# Altium footprint library Connector_PinSocket_2.54mm.PcbLib: 278 footprints (part 13 of 18)
Each footprint in its own frame and in the unit in brackets; x right, y up, seen from the top. Pads: shape width x height; smd on the part's side, far side on the other; paste and mask are expansions set on the pad; w line width, h text height; cw(c..) or ccw(c..) is an arc to the next point about the centre after c.
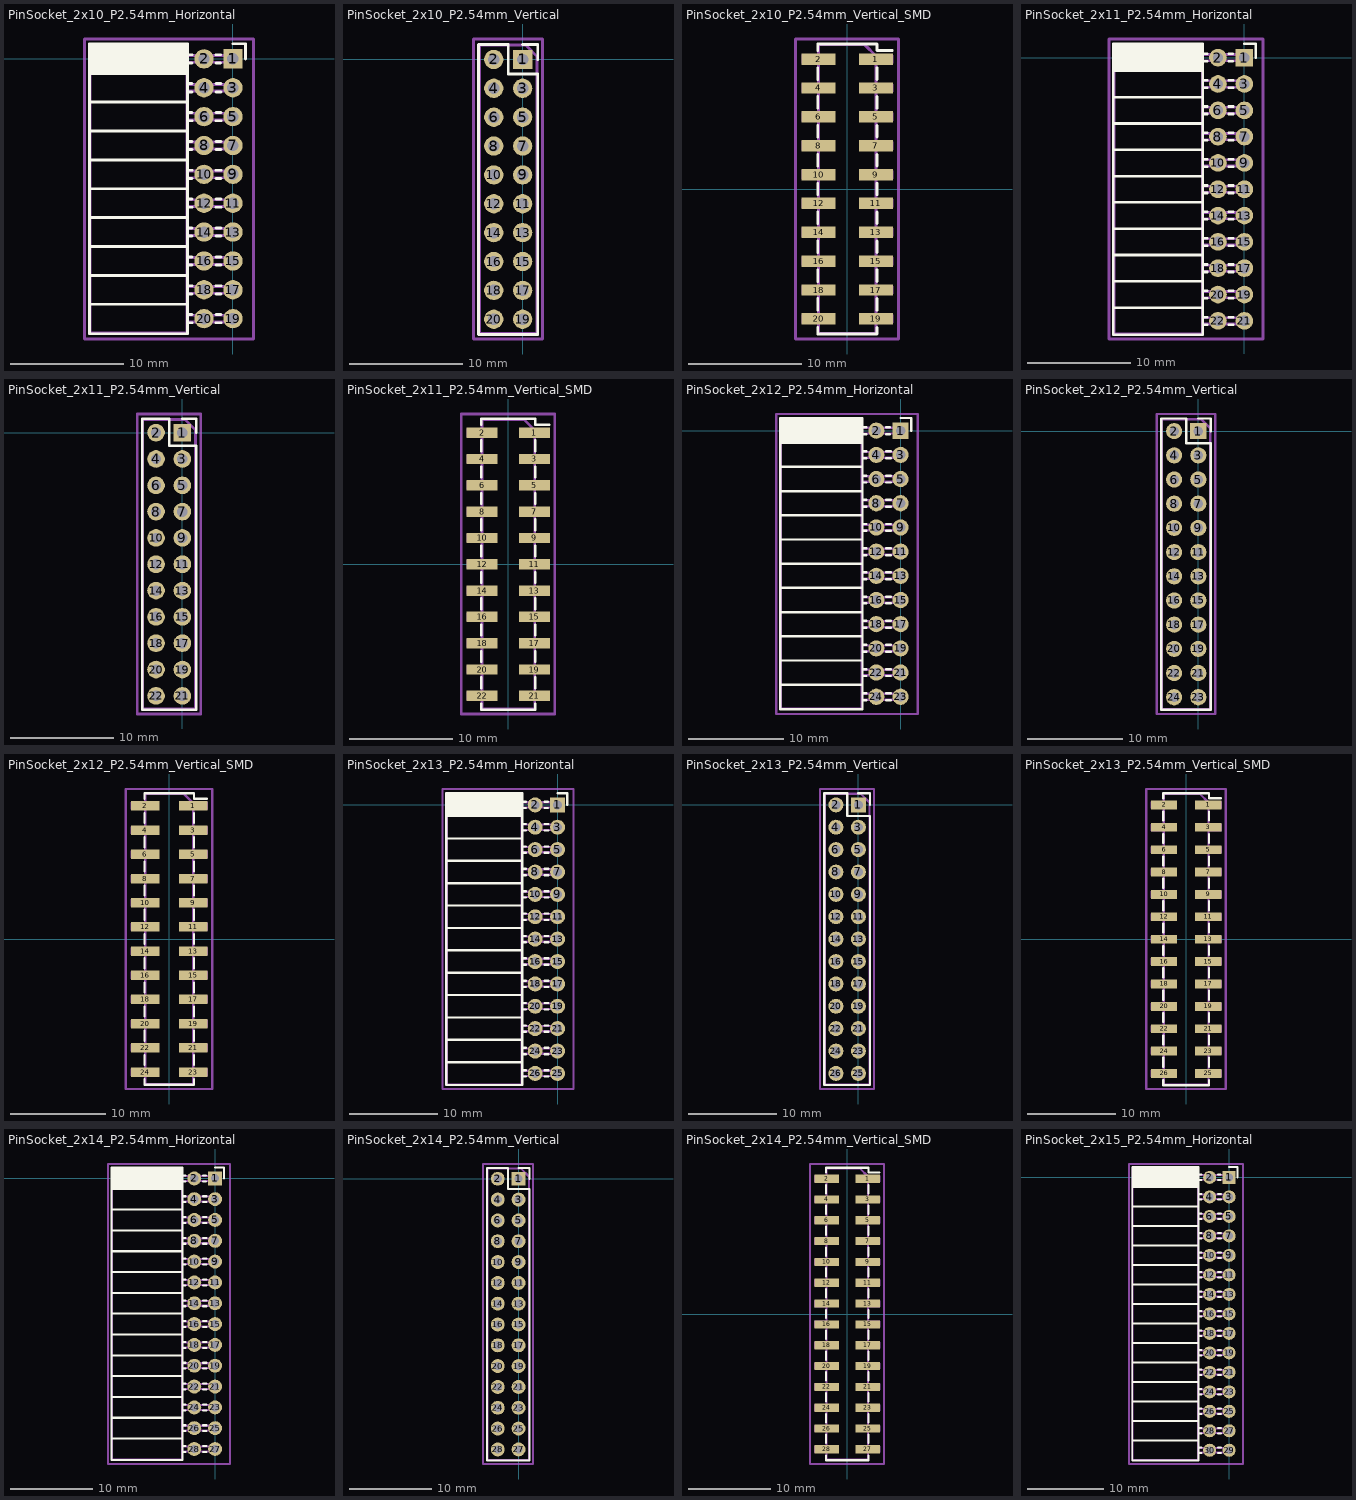
[diagram p12: the footprints below, top view; thin cyan lines are the x and y axes]

## PinSocket_2x10_P2.54mm_Horizontal [mm]
pads (20):
  rect 1.7x1.7 hole 1: 1(0,0)
  round 1.7 hole 1: 2(-2.54,0) 3(0,-2.54) 4(-2.54,-2.54) 5(0,-5.08) 6(-2.54,-5.08) 7(0,-7.62) 8(-2.54,-7.62) 9(0,-10.16) 10(-2.54,-10.16) 11(0,-12.7) 12(-2.54,-12.7) 13(0,-15.24) 14(-2.54,-15.24) 15(0,-17.78) 16(-2.54,-17.78) 17(0,-20.32) 18(-2.54,-20.32) 19(0,-22.86) 20(-2.54,-22.86)
F.SilkS:
  lines w0.254: -12.63,-21.59 -4,-21.59 ; -12.63,-19.05 -4,-19.05 ; -12.63,-16.51 -4,-16.51 ; -12.63,-13.97 -4,-13.97 ; -12.63,-11.43 -4,-11.43 ; -12.63,-8.89 -4,-8.89 ; -12.63,-6.35 -4,-6.35 ; -12.63,-3.81 -4,-3.81 ; -12.63,-1.27 -4,-1.27 ; -12.63,-1.152 -4,-1.152 ; -12.63,-1.034 -4,-1.034 ; -12.63,-0.916 -4,-0.916 ; -12.63,-0.798 -4,-0.798 ; -12.63,-0.68 -4,-0.68 ; -12.63,-0.561 -4,-0.561 ; -12.63,-0.443 -4,-0.443 ; -12.63,-0.325 -4,-0.325 ; -12.63,-0.207 -4,-0.207 ; -12.63,-0.089 -4,-0.089 ; -12.63,0.029 -4,0.029 ; -12.63,0.147 -4,0.147 ; -12.63,0.265 -4,0.265 ; -12.63,0.383 -4,0.383 ; -12.63,0.501 -4,0.501 ; -12.63,0.62 -4,0.62 ; -12.63,0.738 -4,0.738 ; -12.63,0.856 -4,0.856 ; -12.63,0.974 -4,0.974 ; -12.63,1.092 -4,1.092 ; -12.63,1.21 -4,1.21 ; -4,-23.22 -3.59,-23.22 ; -4,-22.5 -3.59,-22.5 ; -4,-20.68 -3.59,-20.68 ; -4,-19.96 -3.59,-19.96 ; -4,-18.14 -3.59,-18.14 ; -4,-17.42 -3.59,-17.42 ; -4,-15.6 -3.59,-15.6 ; -4,-14.88 -3.59,-14.88 ; -4,-13.06 -3.59,-13.06 ; -4,-12.34 -3.59,-12.34 ; -4,-10.52 -3.59,-10.52 ; -4,-9.8 -3.59,-9.8 ; -4,-7.98 -3.59,-7.98 ; -4,-7.26 -3.59,-7.26 ; -4,-5.44 -3.59,-5.44 ; -4,-4.72 -3.59,-4.72 ; -4,-2.9 -3.59,-2.9 ; -4,-2.18 -3.59,-2.18 ; -4,-0.36 -3.59,-0.36 ; -4,0.36 -3.59,0.36 ; -1.49,-23.22 -1.05,-23.22 ; -1.49,-22.5 -1.05,-22.5 ; -1.49,-20.68 -1.05,-20.68 ; -1.49,-19.96 -1.05,-19.96 ; -1.49,-18.14 -1.05,-18.14 ; -1.49,-17.42 -1.05,-17.42 ; -1.49,-15.6 -1.05,-15.6 ; -1.49,-14.88 -1.05,-14.88 ; -1.49,-13.06 -1.05,-13.06 ; -1.49,-12.34 -1.05,-12.34 ; -1.49,-10.52 -1.05,-10.52 ; -1.49,-9.8 -1.05,-9.8 ; -1.49,-7.98 -1.05,-7.98 ; -1.49,-7.26 -1.05,-7.26 ; -1.49,-5.44 -1.05,-5.44 ; -1.49,-4.72 -1.05,-4.72 ; -1.49,-2.9 -1.05,-2.9 ; -1.49,-2.18 -1.05,-2.18 ; -1.49,-0.36 -1.11,-0.36 ; -1.49,0.36 -1.11,0.36 ; 0,1.33 1.11,1.33 1.11,0 ; -12.63,-24.19 -4,-24.19 -4,1.33 -12.63,1.33 -12.63,-24.19
Top Assembly:
  lines w0.254: -4.06,-23.16 0,-23.16 0,-22.56 -4.06,-22.56 ; -4.06,-20.62 0,-20.62 0,-20.02 -4.06,-20.02 ; -4.06,-18.08 0,-18.08 0,-17.48 -4.06,-17.48 ; -4.06,-15.54 0,-15.54 0,-14.94 -4.06,-14.94 ; -4.06,-13 0,-13 0,-12.4 -4.06,-12.4 ; -4.06,-10.46 0,-10.46 0,-9.86 -4.06,-9.86 ; -4.06,-7.92 0,-7.92 0,-7.32 -4.06,-7.32 ; -4.06,-5.38 0,-5.38 0,-4.78 -4.06,-4.78 ; -4.06,-2.84 0,-2.84 0,-2.24 -4.06,-2.24 ; -4.06,-0.3 0,-0.3 0,0.3 -4.06,0.3 ; -4.06,0.3 -4.06,-24.13 -12.57,-24.13 -12.57,1.27 -5.03,1.27 -4.06,0.3
  text "'.Designator'" at -7.475,-15.477 h1
Top Courtyard:
  lines w0.254: -13.05,-24.65 1.8,-24.65 1.8,1.75 -13.05,1.75 -13.05,-24.65
Top Designator:
  text ".Designator" at -13.243,-11.958 h1.52

## PinSocket_2x10_P2.54mm_Vertical [mm]
pads (20):
  rect 1.7x1.7 hole 1: 1(0,0)
  round 1.7 hole 1: 2(-2.54,0) 3(0,-2.54) 4(-2.54,-2.54) 5(0,-5.08) 6(-2.54,-5.08) 7(0,-7.62) 8(-2.54,-7.62) 9(0,-10.16) 10(-2.54,-10.16) 11(0,-12.7) 12(-2.54,-12.7) 13(0,-15.24) 14(-2.54,-15.24) 15(0,-17.78) 16(-2.54,-17.78) 17(0,-20.32) 18(-2.54,-20.32) 19(0,-22.86) 20(-2.54,-22.86)
F.SilkS:
  lines w0.254: 0,1.33 1.33,1.33 1.33,0 ; -3.87,-24.19 1.33,-24.19 1.33,-1.27 -1.27,-1.27 -1.27,1.33 -3.87,1.33 -3.87,-24.19
Top Assembly:
  lines w0.254: -3.81,-24.13 1.27,-24.13 1.27,0.27 0.27,1.27 -3.81,1.27 -3.81,-24.13
  text "'.Designator'" at -0.43,-15.477 h1
Top Courtyard:
  lines w0.254: -4.34,-24.6 1.76,-24.6 1.76,1.8 -4.34,1.8 -4.34,-24.6
Top Designator:
  text ".Designator" at -8.908,-11.908 h1.52

## PinSocket_2x10_P2.54mm_Vertical_SMD [mm]
pads (20):
  rect 3x1 smd: 1(2.52,11.43) 2(-2.52,11.43) 3(2.52,8.89) 4(-2.52,8.89) 5(2.52,6.35) 6(-2.52,6.35) 7(2.52,3.81) 8(-2.52,3.81) 9(2.52,1.27) 10(-2.52,1.27) 11(2.52,-1.27) 12(-2.52,-1.27) 13(2.52,-3.81) 14(-2.52,-3.81) 15(2.52,-6.35) 16(-2.52,-6.35) 17(2.52,-8.89) 18(-2.52,-8.89) 19(2.52,-11.43) 20(-2.52,-11.43)
F.SilkS:
  lines w0.254: -2.6,-12.19 -2.6,-12.76 2.6,-12.76 2.6,-12.19 ; -2.6,-10.67 -2.6,-9.65 ; -2.6,-8.13 -2.6,-7.11 ; -2.6,-5.59 -2.6,-4.57 ; -2.6,-3.05 -2.6,-2.03 ; -2.6,-0.51 -2.6,0.51 ; -2.6,2.03 -2.6,3.05 ; -2.6,4.57 -2.6,5.59 ; -2.6,7.11 -2.6,8.13 ; -2.6,9.65 -2.6,10.67 ; -2.6,12.19 -2.6,12.76 2.6,12.76 2.6,12.19 3.96,12.19 ; 2.6,-10.67 2.6,-9.65 ; 2.6,-8.13 2.6,-7.11 ; 2.6,-5.59 2.6,-4.57 ; 2.6,-3.05 2.6,-2.03 ; 2.6,-0.51 2.6,0.51 ; 2.6,2.03 2.6,3.05 ; 2.6,4.57 2.6,5.59 ; 2.6,7.11 2.6,8.13 ; 2.6,9.65 2.6,10.67
Top Assembly:
  lines w0.254: -2.54,-11.75 -3.92,-11.75 -3.92,-11.11 -2.54,-11.11 ; -2.54,-9.21 -3.92,-9.21 -3.92,-8.57 -2.54,-8.57 ; -2.54,-6.67 -3.92,-6.67 -3.92,-6.03 -2.54,-6.03 ; -2.54,-4.13 -3.92,-4.13 -3.92,-3.49 -2.54,-3.49 ; -2.54,-1.59 -3.92,-1.59 -3.92,-0.95 -2.54,-0.95 ; -2.54,0.95 -3.92,0.95 -3.92,1.59 -2.54,1.59 ; -2.54,3.49 -3.92,3.49 -3.92,4.13 -2.54,4.13 ; -2.54,6.03 -3.92,6.03 -3.92,6.67 -2.54,6.67 ; -2.54,8.57 -3.92,8.57 -3.92,9.21 -2.54,9.21 ; -2.54,11.11 -3.92,11.11 -3.92,11.75 -2.54,11.75 ; 2.54,-11.75 3.92,-11.75 3.92,-11.11 2.54,-11.11 ; 2.54,-9.21 3.92,-9.21 3.92,-8.57 2.54,-8.57 ; 2.54,-6.67 3.92,-6.67 3.92,-6.03 2.54,-6.03 ; 2.54,-4.13 3.92,-4.13 3.92,-3.49 2.54,-3.49 ; 2.54,-1.59 3.92,-1.59 3.92,-0.95 2.54,-0.95 ; 2.54,0.95 3.92,0.95 3.92,1.59 2.54,1.59 ; 2.54,3.49 3.92,3.49 3.92,4.13 2.54,4.13 ; 2.54,6.03 3.92,6.03 3.92,6.67 2.54,6.67 ; 2.54,8.57 3.92,8.57 3.92,9.21 2.54,9.21 ; 2.54,11.11 3.92,11.11 3.92,11.75 2.54,11.75 ; -2.54,-12.7 2.54,-12.7 2.54,11.7 1.54,12.7 -2.54,12.7 -2.54,-12.7
  text "'.Designator'" at 0.84,-4.047 h1
Top Courtyard:
  lines w0.254: -4.55,-13.2 4.5,-13.2 4.5,13.2 -4.55,13.2 -4.55,-13.2
Top Designator:
  text ".Designator" at -7.643,-0.508 h1.52

## PinSocket_2x11_P2.54mm_Horizontal [mm]
pads (22):
  rect 1.7x1.7 hole 1: 1(0,0)
  round 1.7 hole 1: 2(-2.54,0) 3(0,-2.54) 4(-2.54,-2.54) 5(0,-5.08) 6(-2.54,-5.08) 7(0,-7.62) 8(-2.54,-7.62) 9(0,-10.16) 10(-2.54,-10.16) 11(0,-12.7) 12(-2.54,-12.7) 13(0,-15.24) 14(-2.54,-15.24) 15(0,-17.78) 16(-2.54,-17.78) 17(0,-20.32) 18(-2.54,-20.32) 19(0,-22.86) 20(-2.54,-22.86) 21(0,-25.4) 22(-2.54,-25.4)
F.SilkS:
  lines w0.254: -12.63,-24.13 -4,-24.13 ; -12.63,-21.59 -4,-21.59 ; -12.63,-19.05 -4,-19.05 ; -12.63,-16.51 -4,-16.51 ; -12.63,-13.97 -4,-13.97 ; -12.63,-11.43 -4,-11.43 ; -12.63,-8.89 -4,-8.89 ; -12.63,-6.35 -4,-6.35 ; -12.63,-3.81 -4,-3.81 ; -12.63,-1.27 -4,-1.27 ; -12.63,-1.152 -4,-1.152 ; -12.63,-1.034 -4,-1.034 ; -12.63,-0.916 -4,-0.916 ; -12.63,-0.798 -4,-0.798 ; -12.63,-0.68 -4,-0.68 ; -12.63,-0.561 -4,-0.561 ; -12.63,-0.443 -4,-0.443 ; -12.63,-0.325 -4,-0.325 ; -12.63,-0.207 -4,-0.207 ; -12.63,-0.089 -4,-0.089 ; -12.63,0.029 -4,0.029 ; -12.63,0.147 -4,0.147 ; -12.63,0.265 -4,0.265 ; -12.63,0.383 -4,0.383 ; -12.63,0.501 -4,0.501 ; -12.63,0.62 -4,0.62 ; -12.63,0.738 -4,0.738 ; -12.63,0.856 -4,0.856 ; -12.63,0.974 -4,0.974 ; -12.63,1.092 -4,1.092 ; -12.63,1.21 -4,1.21 ; -4,-25.76 -3.59,-25.76 ; -4,-25.04 -3.59,-25.04 ; -4,-23.22 -3.59,-23.22 ; -4,-22.5 -3.59,-22.5 ; -4,-20.68 -3.59,-20.68 ; -4,-19.96 -3.59,-19.96 ; -4,-18.14 -3.59,-18.14 ; -4,-17.42 -3.59,-17.42 ; -4,-15.6 -3.59,-15.6 ; -4,-14.88 -3.59,-14.88 ; -4,-13.06 -3.59,-13.06 ; -4,-12.34 -3.59,-12.34 ; -4,-10.52 -3.59,-10.52 ; -4,-9.8 -3.59,-9.8 ; -4,-7.98 -3.59,-7.98 ; -4,-7.26 -3.59,-7.26 ; -4,-5.44 -3.59,-5.44 ; -4,-4.72 -3.59,-4.72 ; -4,-2.9 -3.59,-2.9 ; -4,-2.18 -3.59,-2.18 ; -4,-0.36 -3.59,-0.36 ; -4,0.36 -3.59,0.36 ; -1.49,-25.76 -1.05,-25.76 ; -1.49,-25.04 -1.05,-25.04 ; -1.49,-23.22 -1.05,-23.22 ; -1.49,-22.5 -1.05,-22.5 ; -1.49,-20.68 -1.05,-20.68 ; -1.49,-19.96 -1.05,-19.96 ; -1.49,-18.14 -1.05,-18.14 ; -1.49,-17.42 -1.05,-17.42 ; -1.49,-15.6 -1.05,-15.6 ; -1.49,-14.88 -1.05,-14.88 ; -1.49,-13.06 -1.05,-13.06 ; -1.49,-12.34 -1.05,-12.34 ; -1.49,-10.52 -1.05,-10.52 ; -1.49,-9.8 -1.05,-9.8 ; -1.49,-7.98 -1.05,-7.98 ; -1.49,-7.26 -1.05,-7.26 ; -1.49,-5.44 -1.05,-5.44 ; -1.49,-4.72 -1.05,-4.72 ; -1.49,-2.9 -1.05,-2.9 ; -1.49,-2.18 -1.05,-2.18 ; -1.49,-0.36 -1.11,-0.36 ; -1.49,0.36 -1.11,0.36 ; 0,1.33 1.11,1.33 1.11,0 ; -12.63,-26.73 -4,-26.73 -4,1.33 -12.63,1.33 -12.63,-26.73
Top Assembly:
  lines w0.254: -4.06,-25.7 0,-25.7 0,-25.1 -4.06,-25.1 ; -4.06,-23.16 0,-23.16 0,-22.56 -4.06,-22.56 ; -4.06,-20.62 0,-20.62 0,-20.02 -4.06,-20.02 ; -4.06,-18.08 0,-18.08 0,-17.48 -4.06,-17.48 ; -4.06,-15.54 0,-15.54 0,-14.94 -4.06,-14.94 ; -4.06,-13 0,-13 0,-12.4 -4.06,-12.4 ; -4.06,-10.46 0,-10.46 0,-9.86 -4.06,-9.86 ; -4.06,-7.92 0,-7.92 0,-7.32 -4.06,-7.32 ; -4.06,-5.38 0,-5.38 0,-4.78 -4.06,-4.78 ; -4.06,-2.84 0,-2.84 0,-2.24 -4.06,-2.24 ; -4.06,-0.3 0,-0.3 0,0.3 -4.06,0.3 ; -4.06,0.3 -4.06,-26.67 -12.57,-26.67 -12.57,1.27 -5.03,1.27 -4.06,0.3
  text "'.Designator'" at -7.475,-16.747 h1
Top Courtyard:
  lines w0.254: -13.05,-27.15 1.8,-27.15 1.8,1.8 -13.05,1.8 -13.05,-27.15
Top Designator:
  text ".Designator" at -13.243,-13.183 h1.52

## PinSocket_2x11_P2.54mm_Vertical [mm]
pads (22):
  rect 1.7x1.7 hole 1: 1(0,0)
  round 1.7 hole 1: 2(-2.54,0) 3(0,-2.54) 4(-2.54,-2.54) 5(0,-5.08) 6(-2.54,-5.08) 7(0,-7.62) 8(-2.54,-7.62) 9(0,-10.16) 10(-2.54,-10.16) 11(0,-12.7) 12(-2.54,-12.7) 13(0,-15.24) 14(-2.54,-15.24) 15(0,-17.78) 16(-2.54,-17.78) 17(0,-20.32) 18(-2.54,-20.32) 19(0,-22.86) 20(-2.54,-22.86) 21(0,-25.4) 22(-2.54,-25.4)
F.SilkS:
  lines w0.254: 0,1.33 1.33,1.33 1.33,0 ; -3.87,-26.73 1.33,-26.73 1.33,-1.27 -1.27,-1.27 -1.27,1.33 -3.87,1.33 -3.87,-26.73
Top Assembly:
  lines w0.254: -3.81,-26.67 1.27,-26.67 1.27,0.27 0.27,1.27 -3.81,1.27 -3.81,-26.67
  text "'.Designator'" at -0.43,-16.747 h1
Top Courtyard:
  lines w0.254: -4.34,-27.15 1.76,-27.15 1.76,1.8 -4.34,1.8 -4.34,-27.15
Top Designator:
  text ".Designator" at -8.908,-13.183 h1.52

## PinSocket_2x11_P2.54mm_Vertical_SMD [mm]
pads (22):
  rect 3x1 smd: 1(2.52,12.7) 2(-2.52,12.7) 3(2.52,10.16) 4(-2.52,10.16) 5(2.52,7.62) 6(-2.52,7.62) 7(2.52,5.08) 8(-2.52,5.08) 9(2.52,2.54) 10(-2.52,2.54) 11(2.52,0) 12(-2.52,0) 13(2.52,-2.54) 14(-2.52,-2.54) 15(2.52,-5.08) 16(-2.52,-5.08) 17(2.52,-7.62) 18(-2.52,-7.62) 19(2.52,-10.16) 20(-2.52,-10.16) 21(2.52,-12.7) 22(-2.52,-12.7)
F.SilkS:
  lines w0.254: -2.6,-13.46 -2.6,-14.03 2.6,-14.03 2.6,-13.46 ; -2.6,-11.94 -2.6,-10.92 ; -2.6,-9.4 -2.6,-8.38 ; -2.6,-6.86 -2.6,-5.84 ; -2.6,-4.32 -2.6,-3.3 ; -2.6,-1.78 -2.6,-0.76 ; -2.6,0.76 -2.6,1.78 ; -2.6,3.3 -2.6,4.32 ; -2.6,5.84 -2.6,6.86 ; -2.6,8.38 -2.6,9.4 ; -2.6,10.92 -2.6,11.94 ; -2.6,13.46 -2.6,14.03 2.6,14.03 2.6,13.46 3.96,13.46 ; 2.6,-11.94 2.6,-10.92 ; 2.6,-9.4 2.6,-8.38 ; 2.6,-6.86 2.6,-5.84 ; 2.6,-4.32 2.6,-3.3 ; 2.6,-1.78 2.6,-0.76 ; 2.6,0.76 2.6,1.78 ; 2.6,3.3 2.6,4.32 ; 2.6,5.84 2.6,6.86 ; 2.6,8.38 2.6,9.4 ; 2.6,10.92 2.6,11.94
Top Assembly:
  lines w0.254: -2.54,-13.02 -3.92,-13.02 -3.92,-12.38 -2.54,-12.38 ; -2.54,-10.48 -3.92,-10.48 -3.92,-9.84 -2.54,-9.84 ; -2.54,-7.94 -3.92,-7.94 -3.92,-7.3 -2.54,-7.3 ; -2.54,-5.4 -3.92,-5.4 -3.92,-4.76 -2.54,-4.76 ; -2.54,-2.86 -3.92,-2.86 -3.92,-2.22 -2.54,-2.22 ; -2.54,-0.32 -3.92,-0.32 -3.92,0.32 -2.54,0.32 ; -2.54,2.22 -3.92,2.22 -3.92,2.86 -2.54,2.86 ; -2.54,4.76 -3.92,4.76 -3.92,5.4 -2.54,5.4 ; -2.54,7.3 -3.92,7.3 -3.92,7.94 -2.54,7.94 ; -2.54,9.84 -3.92,9.84 -3.92,10.48 -2.54,10.48 ; -2.54,12.38 -3.92,12.38 -3.92,13.02 -2.54,13.02 ; 2.54,-13.02 3.92,-13.02 3.92,-12.38 2.54,-12.38 ; 2.54,-10.48 3.92,-10.48 3.92,-9.84 2.54,-9.84 ; 2.54,-7.94 3.92,-7.94 3.92,-7.3 2.54,-7.3 ; 2.54,-5.4 3.92,-5.4 3.92,-4.76 2.54,-4.76 ; 2.54,-2.86 3.92,-2.86 3.92,-2.22 2.54,-2.22 ; 2.54,-0.32 3.92,-0.32 3.92,0.32 2.54,0.32 ; 2.54,2.22 3.92,2.22 3.92,2.86 2.54,2.86 ; 2.54,4.76 3.92,4.76 3.92,5.4 2.54,5.4 ; 2.54,7.3 3.92,7.3 3.92,7.94 2.54,7.94 ; 2.54,9.84 3.92,9.84 3.92,10.48 2.54,10.48 ; 2.54,12.38 3.92,12.38 3.92,13.02 2.54,13.02 ; -2.54,-13.97 2.54,-13.97 2.54,12.97 1.54,13.97 -2.54,13.97 -2.54,-13.97
  text "'.Designator'" at 0.84,-4.047 h1
Top Courtyard:
  lines w0.254: -4.55,-14.45 4.5,-14.45 4.5,14.5 -4.55,14.5 -4.55,-14.45
Top Designator:
  text ".Designator" at -7.643,-0.483 h1.52

## PinSocket_2x12_P2.54mm_Horizontal [mm]
pads (24):
  rect 1.7x1.7 hole 1: 1(0,0)
  round 1.7 hole 1: 2(-2.54,0) 3(0,-2.54) 4(-2.54,-2.54) 5(0,-5.08) 6(-2.54,-5.08) 7(0,-7.62) 8(-2.54,-7.62) 9(0,-10.16) 10(-2.54,-10.16) 11(0,-12.7) 12(-2.54,-12.7) 13(0,-15.24) 14(-2.54,-15.24) 15(0,-17.78) 16(-2.54,-17.78) 17(0,-20.32) 18(-2.54,-20.32) 19(0,-22.86) 20(-2.54,-22.86) 21(0,-25.4) 22(-2.54,-25.4) 23(0,-27.94) 24(-2.54,-27.94)
F.SilkS:
  lines w0.254: -12.63,-26.67 -4,-26.67 ; -12.63,-24.13 -4,-24.13 ; -12.63,-21.59 -4,-21.59 ; -12.63,-19.05 -4,-19.05 ; -12.63,-16.51 -4,-16.51 ; -12.63,-13.97 -4,-13.97 ; -12.63,-11.43 -4,-11.43 ; -12.63,-8.89 -4,-8.89 ; -12.63,-6.35 -4,-6.35 ; -12.63,-3.81 -4,-3.81 ; -12.63,-1.27 -4,-1.27 ; -12.63,-1.152 -4,-1.152 ; -12.63,-1.034 -4,-1.034 ; -12.63,-0.916 -4,-0.916 ; -12.63,-0.798 -4,-0.798 ; -12.63,-0.68 -4,-0.68 ; -12.63,-0.561 -4,-0.561 ; -12.63,-0.443 -4,-0.443 ; -12.63,-0.325 -4,-0.325 ; -12.63,-0.207 -4,-0.207 ; -12.63,-0.089 -4,-0.089 ; -12.63,0.029 -4,0.029 ; -12.63,0.147 -4,0.147 ; -12.63,0.265 -4,0.265 ; -12.63,0.383 -4,0.383 ; -12.63,0.501 -4,0.501 ; -12.63,0.62 -4,0.62 ; -12.63,0.738 -4,0.738 ; -12.63,0.856 -4,0.856 ; -12.63,0.974 -4,0.974 ; -12.63,1.092 -4,1.092 ; -12.63,1.21 -4,1.21 ; -4,-28.3 -3.59,-28.3 ; -4,-27.58 -3.59,-27.58 ; -4,-25.76 -3.59,-25.76 ; -4,-25.04 -3.59,-25.04 ; -4,-23.22 -3.59,-23.22 ; -4,-22.5 -3.59,-22.5 ; -4,-20.68 -3.59,-20.68 ; -4,-19.96 -3.59,-19.96 ; -4,-18.14 -3.59,-18.14 ; -4,-17.42 -3.59,-17.42 ; -4,-15.6 -3.59,-15.6 ; -4,-14.88 -3.59,-14.88 ; -4,-13.06 -3.59,-13.06 ; -4,-12.34 -3.59,-12.34 ; -4,-10.52 -3.59,-10.52 ; -4,-9.8 -3.59,-9.8 ; -4,-7.98 -3.59,-7.98 ; -4,-7.26 -3.59,-7.26 ; -4,-5.44 -3.59,-5.44 ; -4,-4.72 -3.59,-4.72 ; -4,-2.9 -3.59,-2.9 ; -4,-2.18 -3.59,-2.18 ; -4,-0.36 -3.59,-0.36 ; -4,0.36 -3.59,0.36 ; -1.49,-28.3 -1.05,-28.3 ; -1.49,-27.58 -1.05,-27.58 ; -1.49,-25.76 -1.05,-25.76 ; -1.49,-25.04 -1.05,-25.04 ; -1.49,-23.22 -1.05,-23.22 ; -1.49,-22.5 -1.05,-22.5 ; -1.49,-20.68 -1.05,-20.68 ; -1.49,-19.96 -1.05,-19.96 ; -1.49,-18.14 -1.05,-18.14 ; -1.49,-17.42 -1.05,-17.42 ; -1.49,-15.6 -1.05,-15.6 ; -1.49,-14.88 -1.05,-14.88 ; -1.49,-13.06 -1.05,-13.06 ; -1.49,-12.34 -1.05,-12.34 ; -1.49,-10.52 -1.05,-10.52 ; -1.49,-9.8 -1.05,-9.8 ; -1.49,-7.98 -1.05,-7.98 ; -1.49,-7.26 -1.05,-7.26 ; -1.49,-5.44 -1.05,-5.44 ; -1.49,-4.72 -1.05,-4.72 ; -1.49,-2.9 -1.05,-2.9 ; -1.49,-2.18 -1.05,-2.18 ; -1.49,-0.36 -1.11,-0.36 ; -1.49,0.36 -1.11,0.36 ; 0,1.33 1.11,1.33 1.11,0 ; -12.63,-29.27 -4,-29.27 -4,1.33 -12.63,1.33 -12.63,-29.27
Top Assembly:
  lines w0.254: -4.06,-28.24 0,-28.24 0,-27.64 -4.06,-27.64 ; -4.06,-25.7 0,-25.7 0,-25.1 -4.06,-25.1 ; -4.06,-23.16 0,-23.16 0,-22.56 -4.06,-22.56 ; -4.06,-20.62 0,-20.62 0,-20.02 -4.06,-20.02 ; -4.06,-18.08 0,-18.08 0,-17.48 -4.06,-17.48 ; -4.06,-15.54 0,-15.54 0,-14.94 -4.06,-14.94 ; -4.06,-13 0,-13 0,-12.4 -4.06,-12.4 ; -4.06,-10.46 0,-10.46 0,-9.86 -4.06,-9.86 ; -4.06,-7.92 0,-7.92 0,-7.32 -4.06,-7.32 ; -4.06,-5.38 0,-5.38 0,-4.78 -4.06,-4.78 ; -4.06,-2.84 0,-2.84 0,-2.24 -4.06,-2.24 ; -4.06,-0.3 0,-0.3 0,0.3 -4.06,0.3 ; -4.06,0.3 -4.06,-29.21 -12.57,-29.21 -12.57,1.27 -5.03,1.27 -4.06,0.3
  text "'.Designator'" at -7.475,-18.017 h1
Top Courtyard:
  lines w0.254: -13.05,-29.75 1.8,-29.75 1.8,1.75 -13.05,1.75 -13.05,-29.75
Top Designator:
  text ".Designator" at -13.243,-14.508 h1.52

## PinSocket_2x12_P2.54mm_Vertical [mm]
pads (24):
  rect 1.7x1.7 hole 1: 1(0,0)
  round 1.7 hole 1: 2(-2.54,0) 3(0,-2.54) 4(-2.54,-2.54) 5(0,-5.08) 6(-2.54,-5.08) 7(0,-7.62) 8(-2.54,-7.62) 9(0,-10.16) 10(-2.54,-10.16) 11(0,-12.7) 12(-2.54,-12.7) 13(0,-15.24) 14(-2.54,-15.24) 15(0,-17.78) 16(-2.54,-17.78) 17(0,-20.32) 18(-2.54,-20.32) 19(0,-22.86) 20(-2.54,-22.86) 21(0,-25.4) 22(-2.54,-25.4) 23(0,-27.94) 24(-2.54,-27.94)
F.SilkS:
  lines w0.254: 0,1.33 1.33,1.33 1.33,0 ; -3.87,-29.27 1.33,-29.27 1.33,-1.27 -1.27,-1.27 -1.27,1.33 -3.87,1.33 -3.87,-29.27
Top Assembly:
  lines w0.254: -3.81,-29.21 1.27,-29.21 1.27,0.27 0.27,1.27 -3.81,1.27 -3.81,-29.21
  text "'.Designator'" at -0.43,-18.017 h1
Top Courtyard:
  lines w0.254: -4.34,-29.7 1.76,-29.7 1.76,1.8 -4.34,1.8 -4.34,-29.7
Top Designator:
  text ".Designator" at -8.908,-14.458 h1.52

## PinSocket_2x12_P2.54mm_Vertical_SMD [mm]
pads (24):
  rect 3x1 smd: 1(2.52,13.97) 2(-2.52,13.97) 3(2.52,11.43) 4(-2.52,11.43) 5(2.52,8.89) 6(-2.52,8.89) 7(2.52,6.35) 8(-2.52,6.35) 9(2.52,3.81) 10(-2.52,3.81) 11(2.52,1.27) 12(-2.52,1.27) 13(2.52,-1.27) 14(-2.52,-1.27) 15(2.52,-3.81) 16(-2.52,-3.81) 17(2.52,-6.35) 18(-2.52,-6.35) 19(2.52,-8.89) 20(-2.52,-8.89) 21(2.52,-11.43) 22(-2.52,-11.43) 23(2.52,-13.97) 24(-2.52,-13.97)
F.SilkS:
  lines w0.254: -2.6,-14.73 -2.6,-15.3 2.6,-15.3 2.6,-14.73 ; -2.6,-13.21 -2.6,-12.19 ; -2.6,-10.67 -2.6,-9.65 ; -2.6,-8.13 -2.6,-7.11 ; -2.6,-5.59 -2.6,-4.57 ; -2.6,-3.05 -2.6,-2.03 ; -2.6,-0.51 -2.6,0.51 ; -2.6,2.03 -2.6,3.05 ; -2.6,4.57 -2.6,5.59 ; -2.6,7.11 -2.6,8.13 ; -2.6,9.65 -2.6,10.67 ; -2.6,12.19 -2.6,13.21 ; -2.6,14.73 -2.6,15.3 2.6,15.3 2.6,14.73 3.96,14.73 ; 2.6,-13.21 2.6,-12.19 ; 2.6,-10.67 2.6,-9.65 ; 2.6,-8.13 2.6,-7.11 ; 2.6,-5.59 2.6,-4.57 ; 2.6,-3.05 2.6,-2.03 ; 2.6,-0.51 2.6,0.51 ; 2.6,2.03 2.6,3.05 ; 2.6,4.57 2.6,5.59 ; 2.6,7.11 2.6,8.13 ; 2.6,9.65 2.6,10.67 ; 2.6,12.19 2.6,13.21
Top Assembly:
  lines w0.254: -2.54,-14.29 -3.92,-14.29 -3.92,-13.65 -2.54,-13.65 ; -2.54,-11.75 -3.92,-11.75 -3.92,-11.11 -2.54,-11.11 ; -2.54,-9.21 -3.92,-9.21 -3.92,-8.57 -2.54,-8.57 ; -2.54,-6.67 -3.92,-6.67 -3.92,-6.03 -2.54,-6.03 ; -2.54,-4.13 -3.92,-4.13 -3.92,-3.49 -2.54,-3.49 ; -2.54,-1.59 -3.92,-1.59 -3.92,-0.95 -2.54,-0.95 ; -2.54,0.95 -3.92,0.95 -3.92,1.59 -2.54,1.59 ; -2.54,3.49 -3.92,3.49 -3.92,4.13 -2.54,4.13 ; -2.54,6.03 -3.92,6.03 -3.92,6.67 -2.54,6.67 ; -2.54,8.57 -3.92,8.57 -3.92,9.21 -2.54,9.21 ; -2.54,11.11 -3.92,11.11 -3.92,11.75 -2.54,11.75 ; -2.54,13.65 -3.92,13.65 -3.92,14.29 -2.54,14.29 ; 2.54,-14.29 3.92,-14.29 3.92,-13.65 2.54,-13.65 ; 2.54,-11.75 3.92,-11.75 3.92,-11.11 2.54,-11.11 ; 2.54,-9.21 3.92,-9.21 3.92,-8.57 2.54,-8.57 ; 2.54,-6.67 3.92,-6.67 3.92,-6.03 2.54,-6.03 ; 2.54,-4.13 3.92,-4.13 3.92,-3.49 2.54,-3.49 ; 2.54,-1.59 3.92,-1.59 3.92,-0.95 2.54,-0.95 ; 2.54,0.95 3.92,0.95 3.92,1.59 2.54,1.59 ; 2.54,3.49 3.92,3.49 3.92,4.13 2.54,4.13 ; 2.54,6.03 3.92,6.03 3.92,6.67 2.54,6.67 ; 2.54,8.57 3.92,8.57 3.92,9.21 2.54,9.21 ; 2.54,11.11 3.92,11.11 3.92,11.75 2.54,11.75 ; 2.54,13.65 3.92,13.65 3.92,14.29 2.54,14.29 ; -2.54,-15.24 2.54,-15.24 2.54,14.24 1.54,15.24 -2.54,15.24 -2.54,-15.24
  text "'.Designator'" at 0.84,-4.047 h1
Top Courtyard:
  lines w0.254: -4.55,-15.75 4.5,-15.75 4.5,15.75 -4.55,15.75 -4.55,-15.75
Top Designator:
  text ".Designator" at -7.643,-0.508 h1.52

## PinSocket_2x13_P2.54mm_Horizontal [mm]
pads (26):
  rect 1.7x1.7 hole 1: 1(0,0)
  round 1.7 hole 1: 2(-2.54,0) 3(0,-2.54) 4(-2.54,-2.54) 5(0,-5.08) 6(-2.54,-5.08) 7(0,-7.62) 8(-2.54,-7.62) 9(0,-10.16) 10(-2.54,-10.16) 11(0,-12.7) 12(-2.54,-12.7) 13(0,-15.24) 14(-2.54,-15.24) 15(0,-17.78) 16(-2.54,-17.78) 17(0,-20.32) 18(-2.54,-20.32) 19(0,-22.86) 20(-2.54,-22.86) 21(0,-25.4) 22(-2.54,-25.4) 23(0,-27.94) 24(-2.54,-27.94) 25(0,-30.48) 26(-2.54,-30.48)
F.SilkS:
  lines w0.254: -12.63,-29.21 -4,-29.21 ; -12.63,-26.67 -4,-26.67 ; -12.63,-24.13 -4,-24.13 ; -12.63,-21.59 -4,-21.59 ; -12.63,-19.05 -4,-19.05 ; -12.63,-16.51 -4,-16.51 ; -12.63,-13.97 -4,-13.97 ; -12.63,-11.43 -4,-11.43 ; -12.63,-8.89 -4,-8.89 ; -12.63,-6.35 -4,-6.35 ; -12.63,-3.81 -4,-3.81 ; -12.63,-1.27 -4,-1.27 ; -12.63,-1.152 -4,-1.152 ; -12.63,-1.034 -4,-1.034 ; -12.63,-0.916 -4,-0.916 ; -12.63,-0.798 -4,-0.798 ; -12.63,-0.68 -4,-0.68 ; -12.63,-0.561 -4,-0.561 ; -12.63,-0.443 -4,-0.443 ; -12.63,-0.325 -4,-0.325 ; -12.63,-0.207 -4,-0.207 ; -12.63,-0.089 -4,-0.089 ; -12.63,0.029 -4,0.029 ; -12.63,0.147 -4,0.147 ; -12.63,0.265 -4,0.265 ; -12.63,0.383 -4,0.383 ; -12.63,0.501 -4,0.501 ; -12.63,0.62 -4,0.62 ; -12.63,0.738 -4,0.738 ; -12.63,0.856 -4,0.856 ; -12.63,0.974 -4,0.974 ; -12.63,1.092 -4,1.092 ; -12.63,1.21 -4,1.21 ; -4,-30.84 -3.59,-30.84 ; -4,-30.12 -3.59,-30.12 ; -4,-28.3 -3.59,-28.3 ; -4,-27.58 -3.59,-27.58 ; -4,-25.76 -3.59,-25.76 ; -4,-25.04 -3.59,-25.04 ; -4,-23.22 -3.59,-23.22 ; -4,-22.5 -3.59,-22.5 ; -4,-20.68 -3.59,-20.68 ; -4,-19.96 -3.59,-19.96 ; -4,-18.14 -3.59,-18.14 ; -4,-17.42 -3.59,-17.42 ; -4,-15.6 -3.59,-15.6 ; -4,-14.88 -3.59,-14.88 ; -4,-13.06 -3.59,-13.06 ; -4,-12.34 -3.59,-12.34 ; -4,-10.52 -3.59,-10.52 ; -4,-9.8 -3.59,-9.8 ; -4,-7.98 -3.59,-7.98 ; -4,-7.26 -3.59,-7.26 ; -4,-5.44 -3.59,-5.44 ; -4,-4.72 -3.59,-4.72 ; -4,-2.9 -3.59,-2.9 ; -4,-2.18 -3.59,-2.18 ; -4,-0.36 -3.59,-0.36 ; -4,0.36 -3.59,0.36 ; -1.49,-30.84 -1.05,-30.84 ; -1.49,-30.12 -1.05,-30.12 ; -1.49,-28.3 -1.05,-28.3 ; -1.49,-27.58 -1.05,-27.58 ; -1.49,-25.76 -1.05,-25.76 ; -1.49,-25.04 -1.05,-25.04 ; -1.49,-23.22 -1.05,-23.22 ; -1.49,-22.5 -1.05,-22.5 ; -1.49,-20.68 -1.05,-20.68 ; -1.49,-19.96 -1.05,-19.96 ; -1.49,-18.14 -1.05,-18.14 ; -1.49,-17.42 -1.05,-17.42 ; -1.49,-15.6 -1.05,-15.6 ; -1.49,-14.88 -1.05,-14.88 ; -1.49,-13.06 -1.05,-13.06 ; -1.49,-12.34 -1.05,-12.34 ; -1.49,-10.52 -1.05,-10.52 ; -1.49,-9.8 -1.05,-9.8 ; -1.49,-7.98 -1.05,-7.98 ; -1.49,-7.26 -1.05,-7.26 ; -1.49,-5.44 -1.05,-5.44 ; -1.49,-4.72 -1.05,-4.72 ; -1.49,-2.9 -1.05,-2.9 ; -1.49,-2.18 -1.05,-2.18 ; -1.49,-0.36 -1.11,-0.36 ; -1.49,0.36 -1.11,0.36 ; 0,1.33 1.11,1.33 1.11,0 ; -12.63,-31.81 -4,-31.81 -4,1.33 -12.63,1.33 -12.63,-31.81
Top Assembly:
  lines w0.254: -4.06,-30.78 0,-30.78 0,-30.18 -4.06,-30.18 ; -4.06,-28.24 0,-28.24 0,-27.64 -4.06,-27.64 ; -4.06,-25.7 0,-25.7 0,-25.1 -4.06,-25.1 ; -4.06,-23.16 0,-23.16 0,-22.56 -4.06,-22.56 ; -4.06,-20.62 0,-20.62 0,-20.02 -4.06,-20.02 ; -4.06,-18.08 0,-18.08 0,-17.48 -4.06,-17.48 ; -4.06,-15.54 0,-15.54 0,-14.94 -4.06,-14.94 ; -4.06,-13 0,-13 0,-12.4 -4.06,-12.4 ; -4.06,-10.46 0,-10.46 0,-9.86 -4.06,-9.86 ; -4.06,-7.92 0,-7.92 0,-7.32 -4.06,-7.32 ; -4.06,-5.38 0,-5.38 0,-4.78 -4.06,-4.78 ; -4.06,-2.84 0,-2.84 0,-2.24 -4.06,-2.24 ; -4.06,-0.3 0,-0.3 0,0.3 -4.06,0.3 ; -4.06,0.3 -4.06,-31.75 -12.57,-31.75 -12.57,1.27 -5.03,1.27 -4.06,0.3
  text "'.Designator'" at -7.475,-19.287 h1
Top Courtyard:
  lines w0.254: -13.05,-32.25 1.8,-32.25 1.8,1.8 -13.05,1.8 -13.05,-32.25
Top Designator:
  text ".Designator" at -13.243,-15.733 h1.52

## PinSocket_2x13_P2.54mm_Vertical [mm]
pads (26):
  rect 1.7x1.7 hole 1: 1(0,0)
  round 1.7 hole 1: 2(-2.54,0) 3(0,-2.54) 4(-2.54,-2.54) 5(0,-5.08) 6(-2.54,-5.08) 7(0,-7.62) 8(-2.54,-7.62) 9(0,-10.16) 10(-2.54,-10.16) 11(0,-12.7) 12(-2.54,-12.7) 13(0,-15.24) 14(-2.54,-15.24) 15(0,-17.78) 16(-2.54,-17.78) 17(0,-20.32) 18(-2.54,-20.32) 19(0,-22.86) 20(-2.54,-22.86) 21(0,-25.4) 22(-2.54,-25.4) 23(0,-27.94) 24(-2.54,-27.94) 25(0,-30.48) 26(-2.54,-30.48)
F.SilkS:
  lines w0.254: 0,1.33 1.33,1.33 1.33,0 ; -3.87,-31.81 1.33,-31.81 1.33,-1.27 -1.27,-1.27 -1.27,1.33 -3.87,1.33 -3.87,-31.81
Top Assembly:
  lines w0.254: -3.81,-31.75 1.27,-31.75 1.27,0.27 0.27,1.27 -3.81,1.27 -3.81,-31.75
  text "'.Designator'" at -0.43,-19.287 h1
Top Courtyard:
  lines w0.254: -4.34,-32.25 1.76,-32.25 1.76,1.8 -4.34,1.8 -4.34,-32.25
Top Designator:
  text ".Designator" at -8.908,-15.733 h1.52

## PinSocket_2x13_P2.54mm_Vertical_SMD [mm]
pads (26):
  rect 3x1 smd: 1(2.52,15.24) 2(-2.52,15.24) 3(2.52,12.7) 4(-2.52,12.7) 5(2.52,10.16) 6(-2.52,10.16) 7(2.52,7.62) 8(-2.52,7.62) 9(2.52,5.08) 10(-2.52,5.08) 11(2.52,2.54) 12(-2.52,2.54) 13(2.52,0) 14(-2.52,0) 15(2.52,-2.54) 16(-2.52,-2.54) 17(2.52,-5.08) 18(-2.52,-5.08) 19(2.52,-7.62) 20(-2.52,-7.62) 21(2.52,-10.16) 22(-2.52,-10.16) 23(2.52,-12.7) 24(-2.52,-12.7) 25(2.52,-15.24) 26(-2.52,-15.24)
F.SilkS:
  lines w0.254: -2.6,-16 -2.6,-16.57 2.6,-16.57 2.6,-16 ; -2.6,-14.48 -2.6,-13.46 ; -2.6,-11.94 -2.6,-10.92 ; -2.6,-9.4 -2.6,-8.38 ; -2.6,-6.86 -2.6,-5.84 ; -2.6,-4.32 -2.6,-3.3 ; -2.6,-1.78 -2.6,-0.76 ; -2.6,0.76 -2.6,1.78 ; -2.6,3.3 -2.6,4.32 ; -2.6,5.84 -2.6,6.86 ; -2.6,8.38 -2.6,9.4 ; -2.6,10.92 -2.6,11.94 ; -2.6,13.46 -2.6,14.48 ; -2.6,16 -2.6,16.57 2.6,16.57 2.6,16 3.96,16 ; 2.6,-14.48 2.6,-13.46 ; 2.6,-11.94 2.6,-10.92 ; 2.6,-9.4 2.6,-8.38 ; 2.6,-6.86 2.6,-5.84 ; 2.6,-4.32 2.6,-3.3 ; 2.6,-1.78 2.6,-0.76 ; 2.6,0.76 2.6,1.78 ; 2.6,3.3 2.6,4.32 ; 2.6,5.84 2.6,6.86 ; 2.6,8.38 2.6,9.4 ; 2.6,10.92 2.6,11.94 ; 2.6,13.46 2.6,14.48
Top Assembly:
  lines w0.254: -2.54,-15.56 -3.92,-15.56 -3.92,-14.92 -2.54,-14.92 ; -2.54,-13.02 -3.92,-13.02 -3.92,-12.38 -2.54,-12.38 ; -2.54,-10.48 -3.92,-10.48 -3.92,-9.84 -2.54,-9.84 ; -2.54,-7.94 -3.92,-7.94 -3.92,-7.3 -2.54,-7.3 ; -2.54,-5.4 -3.92,-5.4 -3.92,-4.76 -2.54,-4.76 ; -2.54,-2.86 -3.92,-2.86 -3.92,-2.22 -2.54,-2.22 ; -2.54,-0.32 -3.92,-0.32 -3.92,0.32 -2.54,0.32 ; -2.54,2.22 -3.92,2.22 -3.92,2.86 -2.54,2.86 ; -2.54,4.76 -3.92,4.76 -3.92,5.4 -2.54,5.4 ; -2.54,7.3 -3.92,7.3 -3.92,7.94 -2.54,7.94 ; -2.54,9.84 -3.92,9.84 -3.92,10.48 -2.54,10.48 ; -2.54,12.38 -3.92,12.38 -3.92,13.02 -2.54,13.02 ; -2.54,14.92 -3.92,14.92 -3.92,15.56 -2.54,15.56 ; 2.54,-15.56 3.92,-15.56 3.92,-14.92 2.54,-14.92 ; 2.54,-13.02 3.92,-13.02 3.92,-12.38 2.54,-12.38 ; 2.54,-10.48 3.92,-10.48 3.92,-9.84 2.54,-9.84 ; 2.54,-7.94 3.92,-7.94 3.92,-7.3 2.54,-7.3 ; 2.54,-5.4 3.92,-5.4 3.92,-4.76 2.54,-4.76 ; 2.54,-2.86 3.92,-2.86 3.92,-2.22 2.54,-2.22 ; 2.54,-0.32 3.92,-0.32 3.92,0.32 2.54,0.32 ; 2.54,2.22 3.92,2.22 3.92,2.86 2.54,2.86 ; 2.54,4.76 3.92,4.76 3.92,5.4 2.54,5.4 ; 2.54,7.3 3.92,7.3 3.92,7.94 2.54,7.94 ; 2.54,9.84 3.92,9.84 3.92,10.48 2.54,10.48 ; 2.54,12.38 3.92,12.38 3.92,13.02 2.54,13.02 ; 2.54,14.92 3.92,14.92 3.92,15.56 2.54,15.56 ; -2.54,-16.51 2.54,-16.51 2.54,15.51 1.54,16.51 -2.54,16.51 -2.54,-16.51
  text "'.Designator'" at 0.84,-4.047 h1
Top Courtyard:
  lines w0.254: -4.55,-17 4.5,-17 4.5,17.05 -4.55,17.05 -4.55,-17
Top Designator:
  text ".Designator" at -7.643,-0.483 h1.52

## PinSocket_2x14_P2.54mm_Horizontal [mm]
pads (28):
  rect 1.7x1.7 hole 1: 1(0,0)
  round 1.7 hole 1: 2(-2.54,0) 3(0,-2.54) 4(-2.54,-2.54) 5(0,-5.08) 6(-2.54,-5.08) 7(0,-7.62) 8(-2.54,-7.62) 9(0,-10.16) 10(-2.54,-10.16) 11(0,-12.7) 12(-2.54,-12.7) 13(0,-15.24) 14(-2.54,-15.24) 15(0,-17.78) 16(-2.54,-17.78) 17(0,-20.32) 18(-2.54,-20.32) 19(0,-22.86) 20(-2.54,-22.86) 21(0,-25.4) 22(-2.54,-25.4) 23(0,-27.94) 24(-2.54,-27.94) 25(0,-30.48) 26(-2.54,-30.48) 27(0,-33.02) 28(-2.54,-33.02)
F.SilkS:
  lines w0.254: -12.63,-31.75 -4,-31.75 ; -12.63,-29.21 -4,-29.21 ; -12.63,-26.67 -4,-26.67 ; -12.63,-24.13 -4,-24.13 ; -12.63,-21.59 -4,-21.59 ; -12.63,-19.05 -4,-19.05 ; -12.63,-16.51 -4,-16.51 ; -12.63,-13.97 -4,-13.97 ; -12.63,-11.43 -4,-11.43 ; -12.63,-8.89 -4,-8.89 ; -12.63,-6.35 -4,-6.35 ; -12.63,-3.81 -4,-3.81 ; -12.63,-1.27 -4,-1.27 ; -12.63,-1.152 -4,-1.152 ; -12.63,-1.034 -4,-1.034 ; -12.63,-0.916 -4,-0.916 ; -12.63,-0.798 -4,-0.798 ; -12.63,-0.68 -4,-0.68 ; -12.63,-0.561 -4,-0.561 ; -12.63,-0.443 -4,-0.443 ; -12.63,-0.325 -4,-0.325 ; -12.63,-0.207 -4,-0.207 ; -12.63,-0.089 -4,-0.089 ; -12.63,0.029 -4,0.029 ; -12.63,0.147 -4,0.147 ; -12.63,0.265 -4,0.265 ; -12.63,0.383 -4,0.383 ; -12.63,0.501 -4,0.501 ; -12.63,0.62 -4,0.62 ; -12.63,0.738 -4,0.738 ; -12.63,0.856 -4,0.856 ; -12.63,0.974 -4,0.974 ; -12.63,1.092 -4,1.092 ; -12.63,1.21 -4,1.21 ; -4,-33.38 -3.59,-33.38 ; -4,-32.66 -3.59,-32.66 ; -4,-30.84 -3.59,-30.84 ; -4,-30.12 -3.59,-30.12 ; -4,-28.3 -3.59,-28.3 ; -4,-27.58 -3.59,-27.58 ; -4,-25.76 -3.59,-25.76 ; -4,-25.04 -3.59,-25.04 ; -4,-23.22 -3.59,-23.22 ; -4,-22.5 -3.59,-22.5 ; -4,-20.68 -3.59,-20.68 ; -4,-19.96 -3.59,-19.96 ; -4,-18.14 -3.59,-18.14 ; -4,-17.42 -3.59,-17.42 ; -4,-15.6 -3.59,-15.6 ; -4,-14.88 -3.59,-14.88 ; -4,-13.06 -3.59,-13.06 ; -4,-12.34 -3.59,-12.34 ; -4,-10.52 -3.59,-10.52 ; -4,-9.8 -3.59,-9.8 ; -4,-7.98 -3.59,-7.98 ; -4,-7.26 -3.59,-7.26 ; -4,-5.44 -3.59,-5.44 ; -4,-4.72 -3.59,-4.72 ; -4,-2.9 -3.59,-2.9 ; -4,-2.18 -3.59,-2.18 ; -4,-0.36 -3.59,-0.36 ; -4,0.36 -3.59,0.36 ; -1.49,-33.38 -1.05,-33.38 ; -1.49,-32.66 -1.05,-32.66 ; -1.49,-30.84 -1.05,-30.84 ; -1.49,-30.12 -1.05,-30.12 ; -1.49,-28.3 -1.05,-28.3 ; -1.49,-27.58 -1.05,-27.58 ; -1.49,-25.76 -1.05,-25.76 ; -1.49,-25.04 -1.05,-25.04 ; -1.49,-23.22 -1.05,-23.22 ; -1.49,-22.5 -1.05,-22.5 ; -1.49,-20.68 -1.05,-20.68 ; -1.49,-19.96 -1.05,-19.96 ; -1.49,-18.14 -1.05,-18.14 ; -1.49,-17.42 -1.05,-17.42 ; -1.49,-15.6 -1.05,-15.6 ; -1.49,-14.88 -1.05,-14.88 ; -1.49,-13.06 -1.05,-13.06 ; -1.49,-12.34 -1.05,-12.34 ; -1.49,-10.52 -1.05,-10.52 ; -1.49,-9.8 -1.05,-9.8 ; -1.49,-7.98 -1.05,-7.98 ; -1.49,-7.26 -1.05,-7.26 ; -1.49,-5.44 -1.05,-5.44 ; -1.49,-4.72 -1.05,-4.72 ; -1.49,-2.9 -1.05,-2.9 ; -1.49,-2.18 -1.05,-2.18 ; -1.49,-0.36 -1.11,-0.36 ; -1.49,0.36 -1.11,0.36 ; 0,1.33 1.11,1.33 1.11,0 ; -12.63,-34.35 -4,-34.35 -4,1.33 -12.63,1.33 -12.63,-34.35
Top Assembly:
  lines w0.254: -4.06,-33.32 0,-33.32 0,-32.72 -4.06,-32.72 ; -4.06,-30.78 0,-30.78 0,-30.18 -4.06,-30.18 ; -4.06,-28.24 0,-28.24 0,-27.64 -4.06,-27.64 ; -4.06,-25.7 0,-25.7 0,-25.1 -4.06,-25.1 ; -4.06,-23.16 0,-23.16 0,-22.56 -4.06,-22.56 ; -4.06,-20.62 0,-20.62 0,-20.02 -4.06,-20.02 ; -4.06,-18.08 0,-18.08 0,-17.48 -4.06,-17.48 ; -4.06,-15.54 0,-15.54 0,-14.94 -4.06,-14.94 ; -4.06,-13 0,-13 0,-12.4 -4.06,-12.4 ; -4.06,-10.46 0,-10.46 0,-9.86 -4.06,-9.86 ; -4.06,-7.92 0,-7.92 0,-7.32 -4.06,-7.32 ; -4.06,-5.38 0,-5.38 0,-4.78 -4.06,-4.78 ; -4.06,-2.84 0,-2.84 0,-2.24 -4.06,-2.24 ; -4.06,-0.3 0,-0.3 0,0.3 -4.06,0.3 ; -4.06,0.3 -4.06,-34.29 -12.57,-34.29 -12.57,1.27 -5.03,1.27 -4.06,0.3
  text "'.Designator'" at -7.475,-20.557 h1
Top Courtyard:
  lines w0.254: -13.05,-34.85 1.8,-34.85 1.8,1.75 -13.05,1.75 -13.05,-34.85
Top Designator:
  text ".Designator" at -13.243,-17.058 h1.52

## PinSocket_2x14_P2.54mm_Vertical [mm]
pads (28):
  rect 1.7x1.7 hole 1: 1(0,0)
  round 1.7 hole 1: 2(-2.54,0) 3(0,-2.54) 4(-2.54,-2.54) 5(0,-5.08) 6(-2.54,-5.08) 7(0,-7.62) 8(-2.54,-7.62) 9(0,-10.16) 10(-2.54,-10.16) 11(0,-12.7) 12(-2.54,-12.7) 13(0,-15.24) 14(-2.54,-15.24) 15(0,-17.78) 16(-2.54,-17.78) 17(0,-20.32) 18(-2.54,-20.32) 19(0,-22.86) 20(-2.54,-22.86) 21(0,-25.4) 22(-2.54,-25.4) 23(0,-27.94) 24(-2.54,-27.94) 25(0,-30.48) 26(-2.54,-30.48) 27(0,-33.02) 28(-2.54,-33.02)
F.SilkS:
  lines w0.254: 0,1.33 1.33,1.33 1.33,0 ; -3.87,-34.35 1.33,-34.35 1.33,-1.27 -1.27,-1.27 -1.27,1.33 -3.87,1.33 -3.87,-34.35
Top Assembly:
  lines w0.254: -3.81,-34.29 1.27,-34.29 1.27,0.27 0.27,1.27 -3.81,1.27 -3.81,-34.29
  text "'.Designator'" at -0.43,-20.557 h1
Top Courtyard:
  lines w0.254: -4.34,-34.8 1.76,-34.8 1.76,1.8 -4.34,1.8 -4.34,-34.8
Top Designator:
  text ".Designator" at -8.908,-17.008 h1.52

## PinSocket_2x14_P2.54mm_Vertical_SMD [mm]
pads (28):
  rect 3x1 smd: 1(2.52,16.51) 2(-2.52,16.51) 3(2.52,13.97) 4(-2.52,13.97) 5(2.52,11.43) 6(-2.52,11.43) 7(2.52,8.89) 8(-2.52,8.89) 9(2.52,6.35) 10(-2.52,6.35) 11(2.52,3.81) 12(-2.52,3.81) 13(2.52,1.27) 14(-2.52,1.27) 15(2.52,-1.27) 16(-2.52,-1.27) 17(2.52,-3.81) 18(-2.52,-3.81) 19(2.52,-6.35) 20(-2.52,-6.35) 21(2.52,-8.89) 22(-2.52,-8.89) 23(2.52,-11.43) 24(-2.52,-11.43) 25(2.52,-13.97) 26(-2.52,-13.97) 27(2.52,-16.51) 28(-2.52,-16.51)
F.SilkS:
  lines w0.254: -2.6,-17.27 -2.6,-17.84 2.6,-17.84 2.6,-17.27 ; -2.6,-15.75 -2.6,-14.73 ; -2.6,-13.21 -2.6,-12.19 ; -2.6,-10.67 -2.6,-9.65 ; -2.6,-8.13 -2.6,-7.11 ; -2.6,-5.59 -2.6,-4.57 ; -2.6,-3.05 -2.6,-2.03 ; -2.6,-0.51 -2.6,0.51 ; -2.6,2.03 -2.6,3.05 ; -2.6,4.57 -2.6,5.59 ; -2.6,7.11 -2.6,8.13 ; -2.6,9.65 -2.6,10.67 ; -2.6,12.19 -2.6,13.21 ; -2.6,14.73 -2.6,15.75 ; -2.6,17.27 -2.6,17.84 2.6,17.84 2.6,17.27 3.96,17.27 ; 2.6,-15.75 2.6,-14.73 ; 2.6,-13.21 2.6,-12.19 ; 2.6,-10.67 2.6,-9.65 ; 2.6,-8.13 2.6,-7.11 ; 2.6,-5.59 2.6,-4.57 ; 2.6,-3.05 2.6,-2.03 ; 2.6,-0.51 2.6,0.51 ; 2.6,2.03 2.6,3.05 ; 2.6,4.57 2.6,5.59 ; 2.6,7.11 2.6,8.13 ; 2.6,9.65 2.6,10.67 ; 2.6,12.19 2.6,13.21 ; 2.6,14.73 2.6,15.75
Top Assembly:
  lines w0.254: -2.54,-16.83 -3.92,-16.83 -3.92,-16.19 -2.54,-16.19 ; -2.54,-14.29 -3.92,-14.29 -3.92,-13.65 -2.54,-13.65 ; -2.54,-11.75 -3.92,-11.75 -3.92,-11.11 -2.54,-11.11 ; -2.54,-9.21 -3.92,-9.21 -3.92,-8.57 -2.54,-8.57 ; -2.54,-6.67 -3.92,-6.67 -3.92,-6.03 -2.54,-6.03 ; -2.54,-4.13 -3.92,-4.13 -3.92,-3.49 -2.54,-3.49 ; -2.54,-1.59 -3.92,-1.59 -3.92,-0.95 -2.54,-0.95 ; -2.54,0.95 -3.92,0.95 -3.92,1.59 -2.54,1.59 ; -2.54,3.49 -3.92,3.49 -3.92,4.13 -2.54,4.13 ; -2.54,6.03 -3.92,6.03 -3.92,6.67 -2.54,6.67 ; -2.54,8.57 -3.92,8.57 -3.92,9.21 -2.54,9.21 ; -2.54,11.11 -3.92,11.11 -3.92,11.75 -2.54,11.75 ; -2.54,13.65 -3.92,13.65 -3.92,14.29 -2.54,14.29 ; -2.54,16.19 -3.92,16.19 -3.92,16.83 -2.54,16.83 ; 2.54,-16.83 3.92,-16.83 3.92,-16.19 2.54,-16.19 ; 2.54,-14.29 3.92,-14.29 3.92,-13.65 2.54,-13.65 ; 2.54,-11.75 3.92,-11.75 3.92,-11.11 2.54,-11.11 ; 2.54,-9.21 3.92,-9.21 3.92,-8.57 2.54,-8.57 ; 2.54,-6.67 3.92,-6.67 3.92,-6.03 2.54,-6.03 ; 2.54,-4.13 3.92,-4.13 3.92,-3.49 2.54,-3.49 ; 2.54,-1.59 3.92,-1.59 3.92,-0.95 2.54,-0.95 ; 2.54,0.95 3.92,0.95 3.92,1.59 2.54,1.59 ; 2.54,3.49 3.92,3.49 3.92,4.13 2.54,4.13 ; 2.54,6.03 3.92,6.03 3.92,6.67 2.54,6.67 ; 2.54,8.57 3.92,8.57 3.92,9.21 2.54,9.21 ; 2.54,11.11 3.92,11.11 3.92,11.75 2.54,11.75 ; 2.54,13.65 3.92,13.65 3.92,14.29 2.54,14.29 ; 2.54,16.19 3.92,16.19 3.92,16.83 2.54,16.83 ; -2.54,-17.78 2.54,-17.78 2.54,16.78 1.54,17.78 -2.54,17.78 -2.54,-17.78
  text "'.Designator'" at 0.84,-4.047 h1
Top Courtyard:
  lines w0.254: -4.55,-18.3 4.5,-18.3 4.5,18.3 -4.55,18.3 -4.55,-18.3
Top Designator:
  text ".Designator" at -7.643,-0.508 h1.52

## PinSocket_2x15_P2.54mm_Horizontal [mm]
pads (30):
  rect 1.7x1.7 hole 1: 1(0,0)
  round 1.7 hole 1: 2(-2.54,0) 3(0,-2.54) 4(-2.54,-2.54) 5(0,-5.08) 6(-2.54,-5.08) 7(0,-7.62) 8(-2.54,-7.62) 9(0,-10.16) 10(-2.54,-10.16) 11(0,-12.7) 12(-2.54,-12.7) 13(0,-15.24) 14(-2.54,-15.24) 15(0,-17.78) 16(-2.54,-17.78) 17(0,-20.32) 18(-2.54,-20.32) 19(0,-22.86) 20(-2.54,-22.86) 21(0,-25.4) 22(-2.54,-25.4) 23(0,-27.94) 24(-2.54,-27.94) 25(0,-30.48) 26(-2.54,-30.48) 27(0,-33.02) 28(-2.54,-33.02) 29(0,-35.56) 30(-2.54,-35.56)
F.SilkS:
  lines w0.254: -12.63,-34.29 -4,-34.29 ; -12.63,-31.75 -4,-31.75 ; -12.63,-29.21 -4,-29.21 ; -12.63,-26.67 -4,-26.67 ; -12.63,-24.13 -4,-24.13 ; -12.63,-21.59 -4,-21.59 ; -12.63,-19.05 -4,-19.05 ; -12.63,-16.51 -4,-16.51 ; -12.63,-13.97 -4,-13.97 ; -12.63,-11.43 -4,-11.43 ; -12.63,-8.89 -4,-8.89 ; -12.63,-6.35 -4,-6.35 ; -12.63,-3.81 -4,-3.81 ; -12.63,-1.27 -4,-1.27 ; -12.63,-1.152 -4,-1.152 ; -12.63,-1.034 -4,-1.034 ; -12.63,-0.916 -4,-0.916 ; -12.63,-0.798 -4,-0.798 ; -12.63,-0.68 -4,-0.68 ; -12.63,-0.561 -4,-0.561 ; -12.63,-0.443 -4,-0.443 ; -12.63,-0.325 -4,-0.325 ; -12.63,-0.207 -4,-0.207 ; -12.63,-0.089 -4,-0.089 ; -12.63,0.029 -4,0.029 ; -12.63,0.147 -4,0.147 ; -12.63,0.265 -4,0.265 ; -12.63,0.383 -4,0.383 ; -12.63,0.501 -4,0.501 ; -12.63,0.62 -4,0.62 ; -12.63,0.738 -4,0.738 ; -12.63,0.856 -4,0.856 ; -12.63,0.974 -4,0.974 ; -12.63,1.092 -4,1.092 ; -12.63,1.21 -4,1.21 ; -4,-35.92 -3.59,-35.92 ; -4,-35.2 -3.59,-35.2 ; -4,-33.38 -3.59,-33.38 ; -4,-32.66 -3.59,-32.66 ; -4,-30.84 -3.59,-30.84 ; -4,-30.12 -3.59,-30.12 ; -4,-28.3 -3.59,-28.3 ; -4,-27.58 -3.59,-27.58 ; -4,-25.76 -3.59,-25.76 ; -4,-25.04 -3.59,-25.04 ; -4,-23.22 -3.59,-23.22 ; -4,-22.5 -3.59,-22.5 ; -4,-20.68 -3.59,-20.68 ; -4,-19.96 -3.59,-19.96 ; -4,-18.14 -3.59,-18.14 ; -4,-17.42 -3.59,-17.42 ; -4,-15.6 -3.59,-15.6 ; -4,-14.88 -3.59,-14.88 ; -4,-13.06 -3.59,-13.06 ; -4,-12.34 -3.59,-12.34 ; -4,-10.52 -3.59,-10.52 ; -4,-9.8 -3.59,-9.8 ; -4,-7.98 -3.59,-7.98 ; -4,-7.26 -3.59,-7.26 ; -4,-5.44 -3.59,-5.44 ; -4,-4.72 -3.59,-4.72 ; -4,-2.9 -3.59,-2.9 ; -4,-2.18 -3.59,-2.18 ; -4,-0.36 -3.59,-0.36 ; -4,0.36 -3.59,0.36 ; -1.49,-35.92 -1.05,-35.92 ; -1.49,-35.2 -1.05,-35.2 ; -1.49,-33.38 -1.05,-33.38 ; -1.49,-32.66 -1.05,-32.66 ; -1.49,-30.84 -1.05,-30.84 ; -1.49,-30.12 -1.05,-30.12 ; -1.49,-28.3 -1.05,-28.3 ; -1.49,-27.58 -1.05,-27.58 ; -1.49,-25.76 -1.05,-25.76 ; -1.49,-25.04 -1.05,-25.04 ; -1.49,-23.22 -1.05,-23.22 ; -1.49,-22.5 -1.05,-22.5 ; -1.49,-20.68 -1.05,-20.68 ; -1.49,-19.96 -1.05,-19.96 ; -1.49,-18.14 -1.05,-18.14 ; -1.49,-17.42 -1.05,-17.42 ; -1.49,-15.6 -1.05,-15.6 ; -1.49,-14.88 -1.05,-14.88 ; -1.49,-13.06 -1.05,-13.06 ; -1.49,-12.34 -1.05,-12.34 ; -1.49,-10.52 -1.05,-10.52 ; -1.49,-9.8 -1.05,-9.8 ; -1.49,-7.98 -1.05,-7.98 ; -1.49,-7.26 -1.05,-7.26 ; -1.49,-5.44 -1.05,-5.44 ; -1.49,-4.72 -1.05,-4.72 ; -1.49,-2.9 -1.05,-2.9 ; -1.49,-2.18 -1.05,-2.18 ; -1.49,-0.36 -1.11,-0.36 ; -1.49,0.36 -1.11,0.36 ; 0,1.33 1.11,1.33 1.11,0 ; -12.63,-36.89 -4,-36.89 -4,1.33 -12.63,1.33 -12.63,-36.89
Top Assembly:
  lines w0.254: -4.06,-35.86 0,-35.86 0,-35.26 -4.06,-35.26 ; -4.06,-33.32 0,-33.32 0,-32.72 -4.06,-32.72 ; -4.06,-30.78 0,-30.78 0,-30.18 -4.06,-30.18 ; -4.06,-28.24 0,-28.24 0,-27.64 -4.06,-27.64 ; -4.06,-25.7 0,-25.7 0,-25.1 -4.06,-25.1 ; -4.06,-23.16 0,-23.16 0,-22.56 -4.06,-22.56 ; -4.06,-20.62 0,-20.62 0,-20.02 -4.06,-20.02 ; -4.06,-18.08 0,-18.08 0,-17.48 -4.06,-17.48 ; -4.06,-15.54 0,-15.54 0,-14.94 -4.06,-14.94 ; -4.06,-13 0,-13 0,-12.4 -4.06,-12.4 ; -4.06,-10.46 0,-10.46 0,-9.86 -4.06,-9.86 ; -4.06,-7.92 0,-7.92 0,-7.32 -4.06,-7.32 ; -4.06,-5.38 0,-5.38 0,-4.78 -4.06,-4.78 ; -4.06,-2.84 0,-2.84 0,-2.24 -4.06,-2.24 ; -4.06,-0.3 0,-0.3 0,0.3 -4.06,0.3 ; -4.06,0.3 -4.06,-36.83 -12.57,-36.83 -12.57,1.27 -5.03,1.27 -4.06,0.3
  text "'.Designator'" at -7.475,-21.827 h1
Top Courtyard:
  lines w0.254: -13.05,-37.35 1.8,-37.35 1.8,1.75 -13.05,1.75 -13.05,-37.35
Top Designator:
  text ".Designator" at -13.243,-18.308 h1.52